# EAGLE library part LTC4370 (library gwu_mpnl_ucat_v10 (Samudra Haque N3RDX's conflicted copy 2014-11-19))
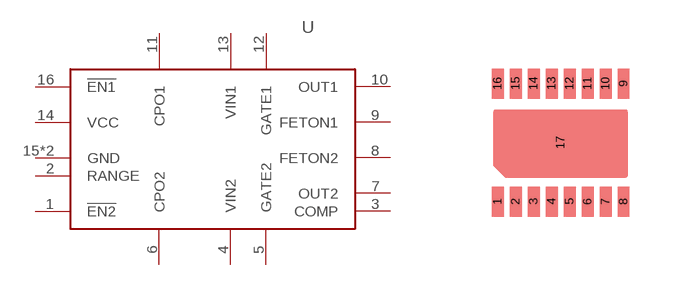
[diagram p16: symbol with the pads of LTC-16-PLASTIC-DFN; footprint LTC-16-PLASTIC-DFN]

Designator prefix U

## LTC4370 (MF: LINEAR; MPN: LTC4370IDE#TRPBF)  [LTC-16-PLASTIC-DFN]
1  !EN2
2  RANGE
3  COMP
4  VIN2
5  GATE2
6  CPO2
7  OUT2
8  FETON2
9  FETON1
10  OUT1
11  CPO1
12  GATE1
13  VIN1
14  VCC
15  GND
16  !EN1
17  GND

## Footprint LTC-16-PLASTIC-DFN (pad centres in mm)
DE Package 16-lead Plastic DFN (4mm x 3mm) Reference: LTC DWG #05-08-1732 Rev 0
smd 0.3 x 0.75: 1 0,0; 2 0.45,0; 3 0.9,0; 4 1.35,0; 5 1.8,0; 6 2.25,0; 7 2.7,0; 8 3.15,0; 9 3.15,2.95; 10 2.7,2.95; 11 2.25,2.95; 12 1.8,2.95; 13 1.35,2.95; 14 0.9,2.95; 15 0.45,2.95; 16 0,2.95; 17 1.575,1.475